# EAGLE library part TPS3808G01DBVT (library TPS3808)
Low Quiescent Current, Programmable-Delay Supervisory Circuit
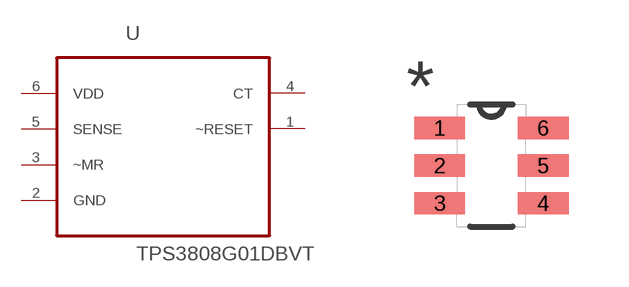
[diagram p0: symbol with the pads of SOT95P280X145-6N; footprint SOT95P280X145-6N]

Designator prefix U

## TPS3808G01DBVT (MPN: TPS3808G01DBVT; OC_FARNELL: 1135455; OC_NEWARK: 21J9197; PACKAGE: SOT-23-6; SUPPLIER: Texas Instruments)  [SOT95P280X145-6N]
1  ~RESET  out
2  GND  pas
3  ~MR  in
4  CT  out
5  SENSE  in
6  VDD  pwr

## Footprint SOT95P280X145-6N (pad centres in mm)
smd 1.27 x 0.559: 1 -1.295,0.94; 2 -1.295,0; 3 -1.295,-0.94; 4 1.295,-0.94; 5 1.295,0; 6 1.295,0.94